# Altium footprint library PCB_lib.PcbLib: 13 footprints
Each footprint in its own frame and in the unit in brackets; x right, y up, seen from the top. Pads: shape width x height; smd on the part's side, far side on the other; paste and mask are expansions set on the pad; w line width, h text height; cw(c..) or ccw(c..) is an arc to the next point about the centre after c.
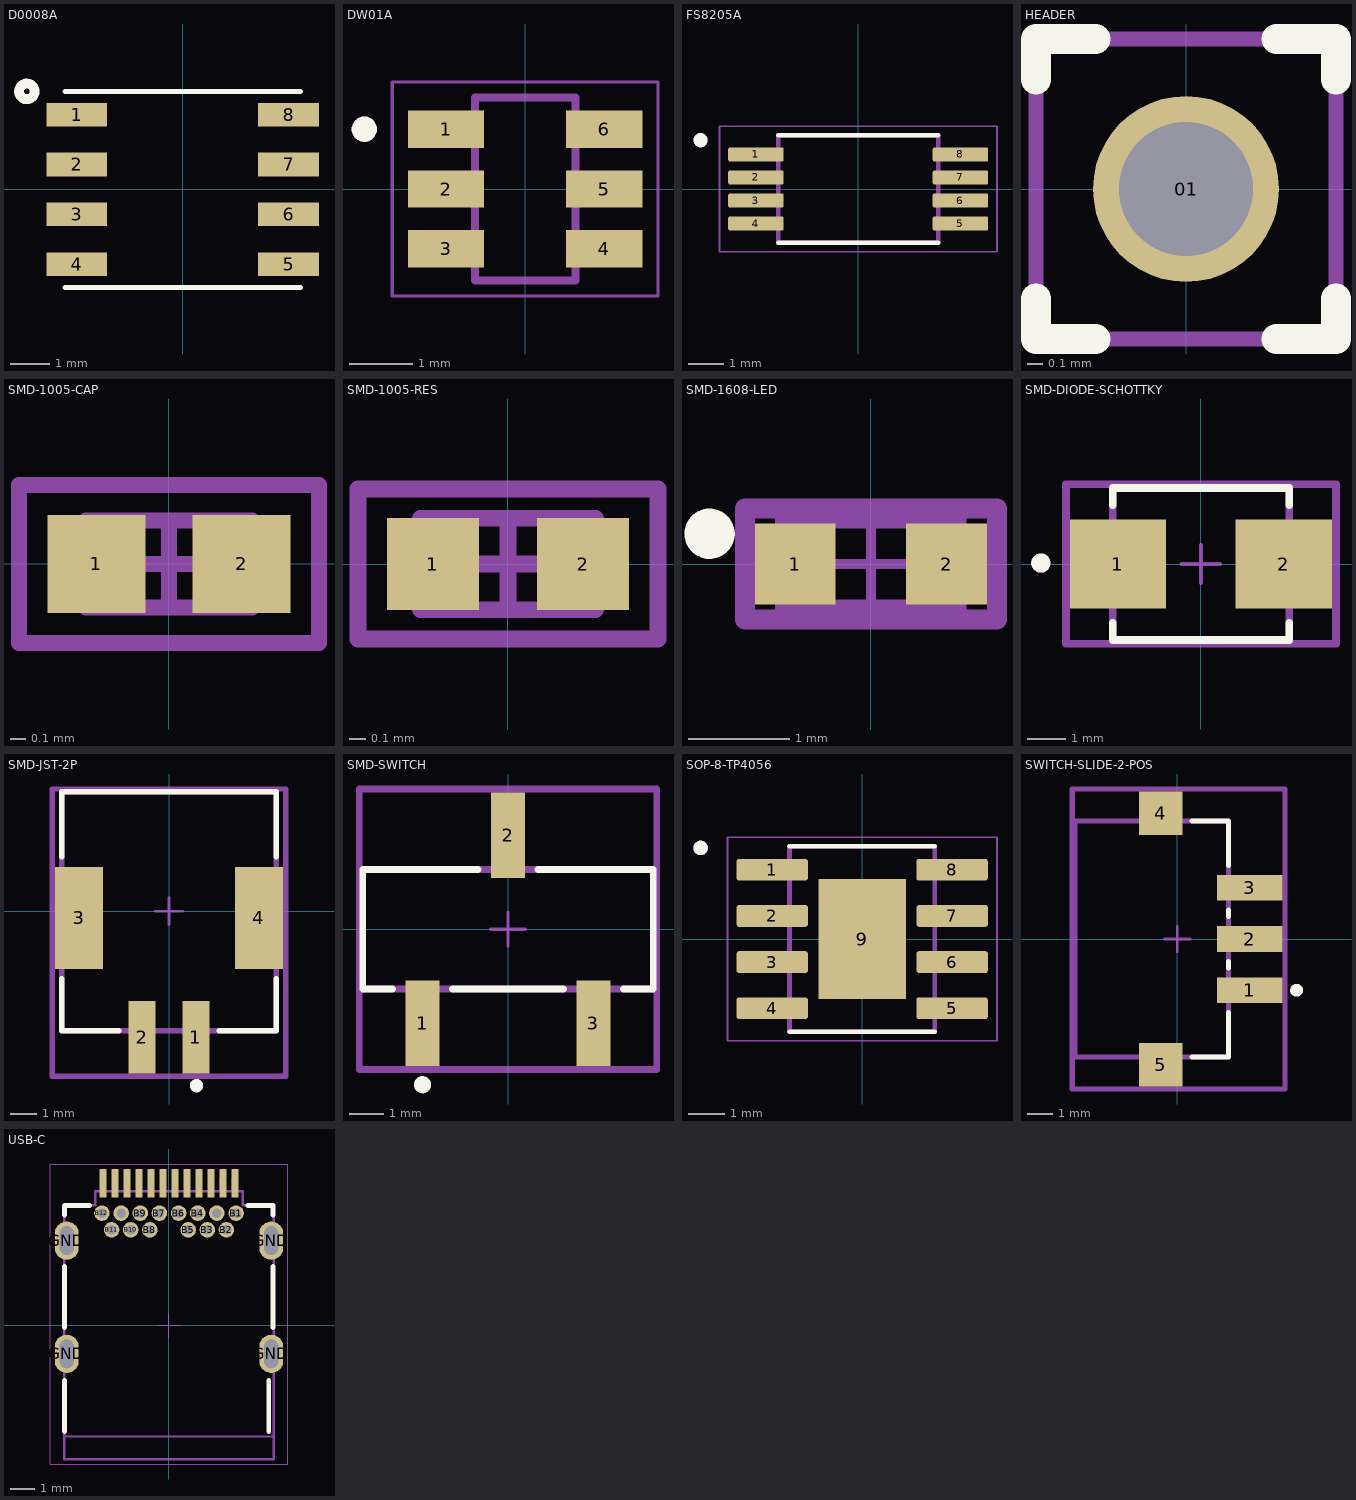
[diagram p0: the footprints below, top view; thin cyan lines are the x and y axes]

## D0008A [mm] "NE555"
pads (8):
  rect 1.55x0.6 smd: 1(-2.7,1.905) 2(-2.7,0.635) 3(-2.7,-0.635) 4(-2.7,-1.905) 5(2.7,-1.905) 6(2.7,-0.635) 7(2.7,0.635) 8(2.7,1.905)
Top Overlay:
  circle w0.25: c-3.975,2.5 r0.2
  lines w0.127: -3,-2.5 3,-2.5 ; -3,2.5 3,2.5
3D body "D0008A.stp": height 1.63, standoff 0, extent -3.011,-2.451 3.011,2.451

## DW01A [mm]
height 1.45
pads (6):
  rect 1.21x0.59 smd: 1(-1.255,0.95) 2(-1.255,0) 3(-1.255,-0.95) 4(1.255,-0.95) 5(1.255,0) 6(1.255,0.95)
Top Overlay:
  circle w0.2: c-2.555,0.95 r0.1
Mechanical 13:
  circle w0.2: c-2.555,0.95 r0.1
  lines w0.127: -0.8,-1.45 0.8,-1.45 0.8,1.45 -0.8,1.45 -0.8,-1.45
Mechanical 15:
  lines w0.05: -2.11,-1.7 -2.11,1.7 2.11,1.7 2.11,-1.7 -2.11,-1.7
3D body "step_temp.STEP": height 1.45, standoff 0, extent -1.4,-1.45 1.4,1.45

## FS8205A [mm]
height 1.2
pads (8):
  rrect25% 1.56x0.4 smd: 1(-2.88,0.975) 2(-2.88,0.325) 3(-2.88,-0.325) 4(-2.88,-0.975) 5(2.88,-0.975) 6(2.88,-0.325) 7(2.88,0.325) 8(2.88,0.975)
Top Overlay:
  circle w0.2: c-4.44,1.375 r0.1
  lines w0.127: -2.25,-1.515 2.25,-1.515 ; -2.25,1.515 2.25,1.515
Mechanical 13:
  circle w0.2: c-4.44,1.375 r0.1
  lines w0.127: -2.25,-1.515 -2.25,1.515 2.25,1.515 2.25,-1.515 -2.25,-1.515
Mechanical 15:
  lines w0.05: -3.91,-1.765 -3.91,1.765 3.91,1.765 3.91,-1.765 -3.91,-1.765
3D body "step_temp.STEP": height 1.2, standoff 0, extent -3.25,-1.465 3.15,1.465

## HEADER [mm]
pads (1):
  round 1.24 hole 0.89: 01(0,0)
Top Overlay:
  lines w0.2: -1,-0.73 -1,-1 -0.605,-1 ; -1,0.73 -1,1 -0.605,1 ; 0.605,-1 1,-1 1,-0.73 ; 0.605,1 1,1 1,0.73
Mechanical 13:
  lines w0.1: -1,-1 1,-1 1,1 -1,1 -1,-1

## SMD-1005-CAP [mm] "Chip Capacitor, 2-Leads, Body 1,00x0,50mm, IPC Medium Density"
height 0.55
pads (2):
  rect 0.62x0.62 smd: 1(-0.46,0) 2(0.46,0)
Top Courtyard:
  lines w0.1: -0.275,0 0.275,0 ; 0,-0.275 0,0.275 ; -0.95,-0.5 0.95,-0.5 0.95,0.5 -0.95,0.5 -0.95,-0.5
Top Designator:
  text ".Designator" at -1.25,-0.083 h0.25
Top Assembly:
  lines w0.1: -0.525,-0.275 0.525,-0.275 0.525,0.275 -0.525,0.275 -0.525,-0.275
3D body "CAPC1005X06N.step": height 0.55, standoff 0, extent -0.525,-0.275 0.525,0.275

## SMD-1005-RES [mm] "Chip Resistor, 2-Leads, Body 1,00x0,50mm, IPC Medium Density"
height 0.55
pads (2):
  rect 0.55x0.55 smd: 1(-0.45,0) 2(0.45,0)
Top Courtyard:
  lines w0.1: -0.275,0 0.275,0 ; 0,-0.275 0,0.275 ; -0.9,-0.45 0.9,-0.45 0.9,0.45 -0.9,0.45 -0.9,-0.45
Top Designator:
  text ".Designator" at -1.25,-0.083 h0.25
Top Assembly:
  lines w0.1: -0.525,-0.275 0.525,-0.275 0.525,0.275 -0.525,0.275 -0.525,-0.275
3D body "RESC1005X06N.step": height 0.55, standoff 0, extent -0.525,-0.275 0.525,0.275

## SMD-1608-LED [mm]
pads (2):
  rect 0.8x0.8 smd paste+0 mask+0: 1(-0.75,0) 2(0.75,0)
Top Overlay:
  circle w0.25: c-1.6,0.3 r0.125
Top Courtyard:
  lines w0.2: -1.25,-0.55 -1.25,0.55 1.25,0.55 1.25,-0.55 -1.25,-0.55
Top Assembly:
  lines w0.2: -1.25,-0.55 -1.25,0.55 1.25,0.55 1.25,-0.55 -1.25,-0.55
Top 3D Body:
  lines w0.2: -0.85,-0.45 -0.85,0.45 0.85,0.45 0.85,-0.45 -0.85,-0.45
Top Component Center:
  lines w0.1: -0.5,0 0.5,0 ; 0,-0.5 0,0.5
3D body "Diode_Lite-On_LTST-C190GKT_eec.STEP": height 0.25, standoff 0, extent -1.25,-0.55 1.25,0.55

## SMD-DIODE-SCHOTTKY [mm]
pads (2):
  rect 2.5x2.3 smd paste+0 mask+0: 1(-2.15,0) 2(2.15,0)
Top Overlay:
  circle w0.25: c-4.15,0.025 r0.125
  lines w0.2: -2.285,-1.525 -2.285,-1.97 2.285,-1.97 2.285,-1.525 ; -2.285,1.525 -2.285,1.97 2.285,1.97 2.285,1.525
Top Courtyard:
  lines w0.2: -3.5,-2.07 -3.5,2.07 3.5,2.07 3.5,-2.07 -3.5,-2.07
Top Assembly:
  lines w0.2: -3.5,-2.07 -3.5,2.07 3.5,2.07 3.5,-2.07 -3.5,-2.07
Top 3D Body:
  lines w0.2: -2.285,-1.97 -2.285,1.97 2.285,1.97 2.285,-1.97 -2.285,-1.97
Top Component Center:
  lines w0.1: -0.5,0 0.5,0 ; 0,-0.5 0,0.5
3D body "Diode_Diodes_Inc_B240-13-F_eec.STEP": height 0.25, standoff 0, extent -3.5,-2.07 3.5,2.07

## SMD-JST-2P [mm]
pads (4):
  rect 1x2.7 smd paste+0 mask+0: 1(1,-4.7) 2(-1,-4.7)
  rect 1.8x3.8 smd paste+0 mask+0: 3(-3.35,-0.25) 4(3.35,-0.25)
Top Overlay:
  circle w0.25: c1.025,-6.5 r0.125
  lines w0.2: -4,-2.525 -4,-4.45 -1.875,-4.45 ; -4,2.025 -4,4.45 4,4.45 4,2.025 ; 1.875,-4.45 4,-4.45 4,-2.525
Top Courtyard:
  lines w0.2: -4.35,-6.15 -4.35,4.55 4.35,4.55 4.35,-6.15 -4.35,-6.15
Top Assembly:
  lines w0.2: -4.35,-6.15 -4.35,4.55 4.35,4.55 4.35,-6.15 -4.35,-6.15
Top 3D Body:
  lines w0.2: -4,-4.45 -4,4.45 4,4.45 4,-4.45 -4,-4.45
Top Component Center:
  lines w0.1: -0.5,0 0.5,0 ; 0,-0.5 0,0.5
3D body "Conn_JST_SM02B-PASS-TB_LF_SN_eec.STEP": height 0.25, standoff 0, extent -4.35,-6.15 4.35,4.55

## SMD-SWITCH [mm]
pads (3):
  rect 1x2.5 smd paste+0 mask+0: 1(-2.5,-2.75) 2(0,2.75) 3(2.5,-2.75)
Top Overlay:
  circle w0.25: c-2.5,-4.55 r0.125
  lines w0.2: -3.375,-1.75 -4.25,-1.75 -4.25,1.75 -0.875,1.75 ; -1.625,-1.75 1.625,-1.75 ; 0.875,1.75 4.25,1.75 4.25,-1.75 3.375,-1.75
Top Courtyard:
  lines w0.2: -4.35,-4.1 -4.35,4.1 4.35,4.1 4.35,-4.1 -4.35,-4.1
Top Assembly:
  lines w0.2: -4.35,-4.1 -4.35,4.1 4.35,4.1 4.35,-4.1 -4.35,-4.1
  text ".Designator" at 0,-0.001 h1
Top 3D Body:
  lines w0.2: -4.25,-1.75 -4.25,1.75 4.25,1.75 4.25,-1.75 -4.25,-1.75
Top Component Center:
  lines w0.1: -0.5,0 0.5,0 ; 0,-0.5 0,0.5
3D body "Switch_C&K_JS102011SCQN_eec.STEP": height 0.25, standoff 0, extent -4.35,-4.1 4.35,4.1

## SOP-8-TP4056 [mm]
height 1.75
pads (9):
  rrect25% 1.97x0.6 smd: 1(-2.475,1.905) 2(-2.475,0.635) 3(-2.475,-0.635) 4(-2.475,-1.905) 5(2.475,-1.905) 6(2.475,-0.635) 7(2.475,0.635) 8(2.475,1.905)
  rect 2.413x3.302 smd paste-3: 9(0,0)
Top Overlay:
  circle w0.2: c-4.445,2.505 r0.1
  lines w0.127: -2,-2.55 2,-2.55 ; -2,2.55 2,2.55
Top Paste:
  region: 0.645,-0.82 -0.645,-0.82 -0.645,0.82 0.645,0.82
Mechanical 13:
  circle w0.2: c-4.445,2.505 r0.1
  lines w0.127: -2,-2.55 2,-2.55 2,2.55 -2,2.55 -2,-2.55
Mechanical 15:
  lines w0.05: -3.71,-2.8 3.71,-2.8 3.71,2.8 -3.71,2.8 -3.71,-2.8
3D body "step_temp.STEP": height 1.75, standoff 0, extent -3,-2.45 3,2.45

## SWITCH-SLIDE-2-POS [mm]
pads (5):
  rect 2.55x1 smd paste+0 mask+0: 1(2.825,-2) 2(2.825,0) 3(2.825,2)
  rect 1.7x1.7 smd paste+0 mask+0: 4(-0.65,4.9) 5(-0.65,-4.9)
Top Overlay:
  circle w0.25: c4.65,-2 r0.125
  lines w0.2: 0.575,-4.6 2,-4.6 2,-2.875 ; 0.575,4.6 2,4.6 2,2.875 ; 2,-1.125 2,-0.875 ; 2,0.875 2,1.125
Top Courtyard:
  lines w0.2: -4.1,-5.85 -4.1,5.85 4.2,5.85 4.2,-5.85 -4.1,-5.85
Top Assembly:
  lines w0.2: -4.1,-5.85 -4.1,5.85 4.2,5.85 4.2,-5.85 -4.1,-5.85
Top 3D Body:
  lines w0.2: -4,-4.6 -4,4.6 2,4.6 2,-4.6 -4,-4.6
Top Component Center:
  lines w0.1: -0.5,0 0.5,0 ; 0,-0.5 0,0.5
3D body "Switch_NKK_Switches_SS312SAH4-R_eec.STEP": height 0.25, standoff 0, extent -4.1,-5.85 4.2,5.85

## USB-C [mm] "USB 3.1 Type C Receptacle Horizontal THR"
height 2.96
pads (30):
  rect 0.3x1.2 smd: A1(-2.75,5.93) A2(-2.25,5.93) A3(-1.75,5.93) A4(-1.25,5.93) A5(-0.75,5.93) A6(-0.25,5.93) A7(0.25,5.93) A8(0.75,5.93) A9(1.25,5.93) A10(1.75,5.93) A11(2.25,5.93) A12(2.75,5.93)
  round 0.65 hole 0.4: B1(2.8,4.68) B2(2.4,3.98) B3(1.6,3.98) B4(1.2,4.68) B5(0.8,3.98) B6(0.4,4.68) B7(-0.4,4.68) B8(-0.8,3.98) B9(-1.2,4.68) B10(-1.6,3.98) B11(-2.4,3.98) B12(-2.8,4.68) Shell(-2,4.68) Shell(2,4.68)
  oval 1x1.6 hole 0.6 slot 1.2 at 90 deg: GND(-4.27,-1.2) GND(-4.27,3.53) GND(4.27,-1.2) GND(4.27,3.53)
Top Overlay:
  lines w0.2: -4.37,-4.45 -4.37,-2.3 ; -4.37,-0.1 -4.37,2.45 ; -4.37,4.6 -4.37,5 -3.32,5 ; 3.29,5 4.34,5 4.34,4.6 ; 4.17,-4.45 4.17,-2.3 ; 4.34,-0.1 4.34,2.45
Bottom Assembly:
  lines w0.1: -4.37,-4.65 4.37,-4.65
  text "PCB Edge" at -1.9,-5.4 h0.61
Top Courtyard:
  lines w0.05: -0.5,0 0.5,0 ; 0,-0.5 0,0.5 ; -4.97,-5.8 -4.97,6.73 4.97,6.73 4.97,-5.8 -4.97,-5.8
Top Designator:
  text ".Designator" at -7.498,-0.5 h1.5
Top 3D Body:
  lines w0.05: -2.85,5.6 -2.85,6.19 -2.65,6.19 -2.65,5.6 ; -2.35,5.6 -2.35,6.19 -2.15,6.19 -2.15,5.6 ; -1.85,5.6 -1.85,6.19 -1.65,6.19 -1.65,5.6 ; -1.35,5.6 -1.35,6.19 -1.15,6.19 -1.15,5.6 ; -0.85,5.6 -0.85,6.19 -0.65,6.19 -0.65,5.6 ; -0.35,5.6 -0.35,6.19 -0.15,6.19 -0.15,5.6 ; 0.15,5.6 0.15,6.19 0.35,6.19 0.35,5.6 ; 0.65,5.6 0.65,6.19 0.85,6.19 0.85,5.6 ; 1.15,5.6 1.15,6.19 1.35,6.19 1.35,5.6 ; 1.65,5.6 1.65,6.19 1.85,6.19 1.85,5.6 ; 2.15,5.6 2.15,6.19 2.35,6.19 2.35,5.6 ; 2.65,5.6 2.65,6.19 2.85,6.19 2.85,5.6
  lines w0.1: 4.34,-5.6 -4.37,-5.6 -4.37,5 -3.08,5 -3.08,5.6 3.08,5.6 3.08,5 4.37,5 4.37,-5.6
Top Component Outline:
  lines w0.05: -2.85,5.6 -2.85,6.19 -2.65,6.19 -2.65,5.6 ; -2.35,5.6 -2.35,6.19 -2.15,6.19 -2.15,5.6 ; -1.85,5.6 -1.85,6.19 -1.65,6.19 -1.65,5.6 ; -1.35,5.6 -1.35,6.19 -1.15,6.19 -1.15,5.6 ; -0.85,5.6 -0.85,6.19 -0.65,6.19 -0.65,5.6 ; -0.35,5.6 -0.35,6.19 -0.15,6.19 -0.15,5.6 ; 0.15,5.6 0.15,6.19 0.35,6.19 0.35,5.6 ; 0.65,5.6 0.65,6.19 0.85,6.19 0.85,5.6 ; 1.15,5.6 1.15,6.19 1.35,6.19 1.35,5.6 ; 1.65,5.6 1.65,6.19 1.85,6.19 1.85,5.6 ; 2.15,5.6 2.15,6.19 2.35,6.19 2.35,5.6 ; 2.65,5.6 2.65,6.19 2.85,6.19 2.85,5.6
  lines w0.1: 4.34,-5.6 -4.37,-5.6 -4.37,5 -3.08,5 -3.08,5.6 3.08,5.6 3.08,5 4.37,5 4.37,-5.6
3D body "632723300011.stp": height 3.05, standoff -1.81, extent -4.37,-5.6 4.37,6.194